# Altium schematic symbol library SN74LVC138ARSVR.SchLib: 1 symbol
Pins are listed as number, name and electrical type; pins without a type are passive.

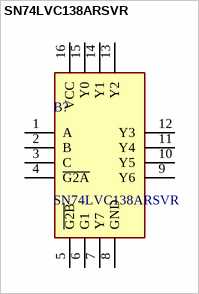
[diagram p0: symbol SN74LVC138ARSVR]

## SN74LVC138ARSVR
designator B?
3-LINE TO 8-LINE DECODERS/DEMULTIPLEXERS; Manufacturer_Name: Texas Instruments; Mouser Part Number: 595-SN74LVC138ARSVR; Mouser Price/Stock: https://www.mouser.co.uk/ProductDetail/Texas-Instruments/SN74LVC138ARSVR?qs=1sbE9T7hb3YT9diEkFsw4Q%3D%3D; Manufacturer_Part_Number: SN74LVC138ARSVR; Datasheet Link: http://www.ti.com/lit/ds/symlink/sn74lvc138a.pdf
footprint SN74AVC4T245RSVR
pins: 1 A, 2 B, 3 C, 4 ~{G2A}, 5 ~{G2B}, 6 G1, 7 Y7, 8 GND, 9 Y6, 10 Y5, 11 Y4, 12 Y3, 13 Y2, 14 Y1, 15 Y0, 16 VCC (power)